# Altium integrated library Silicon Labs Isolation and Power.IntLib: 421 symbols (part 18 of 19)
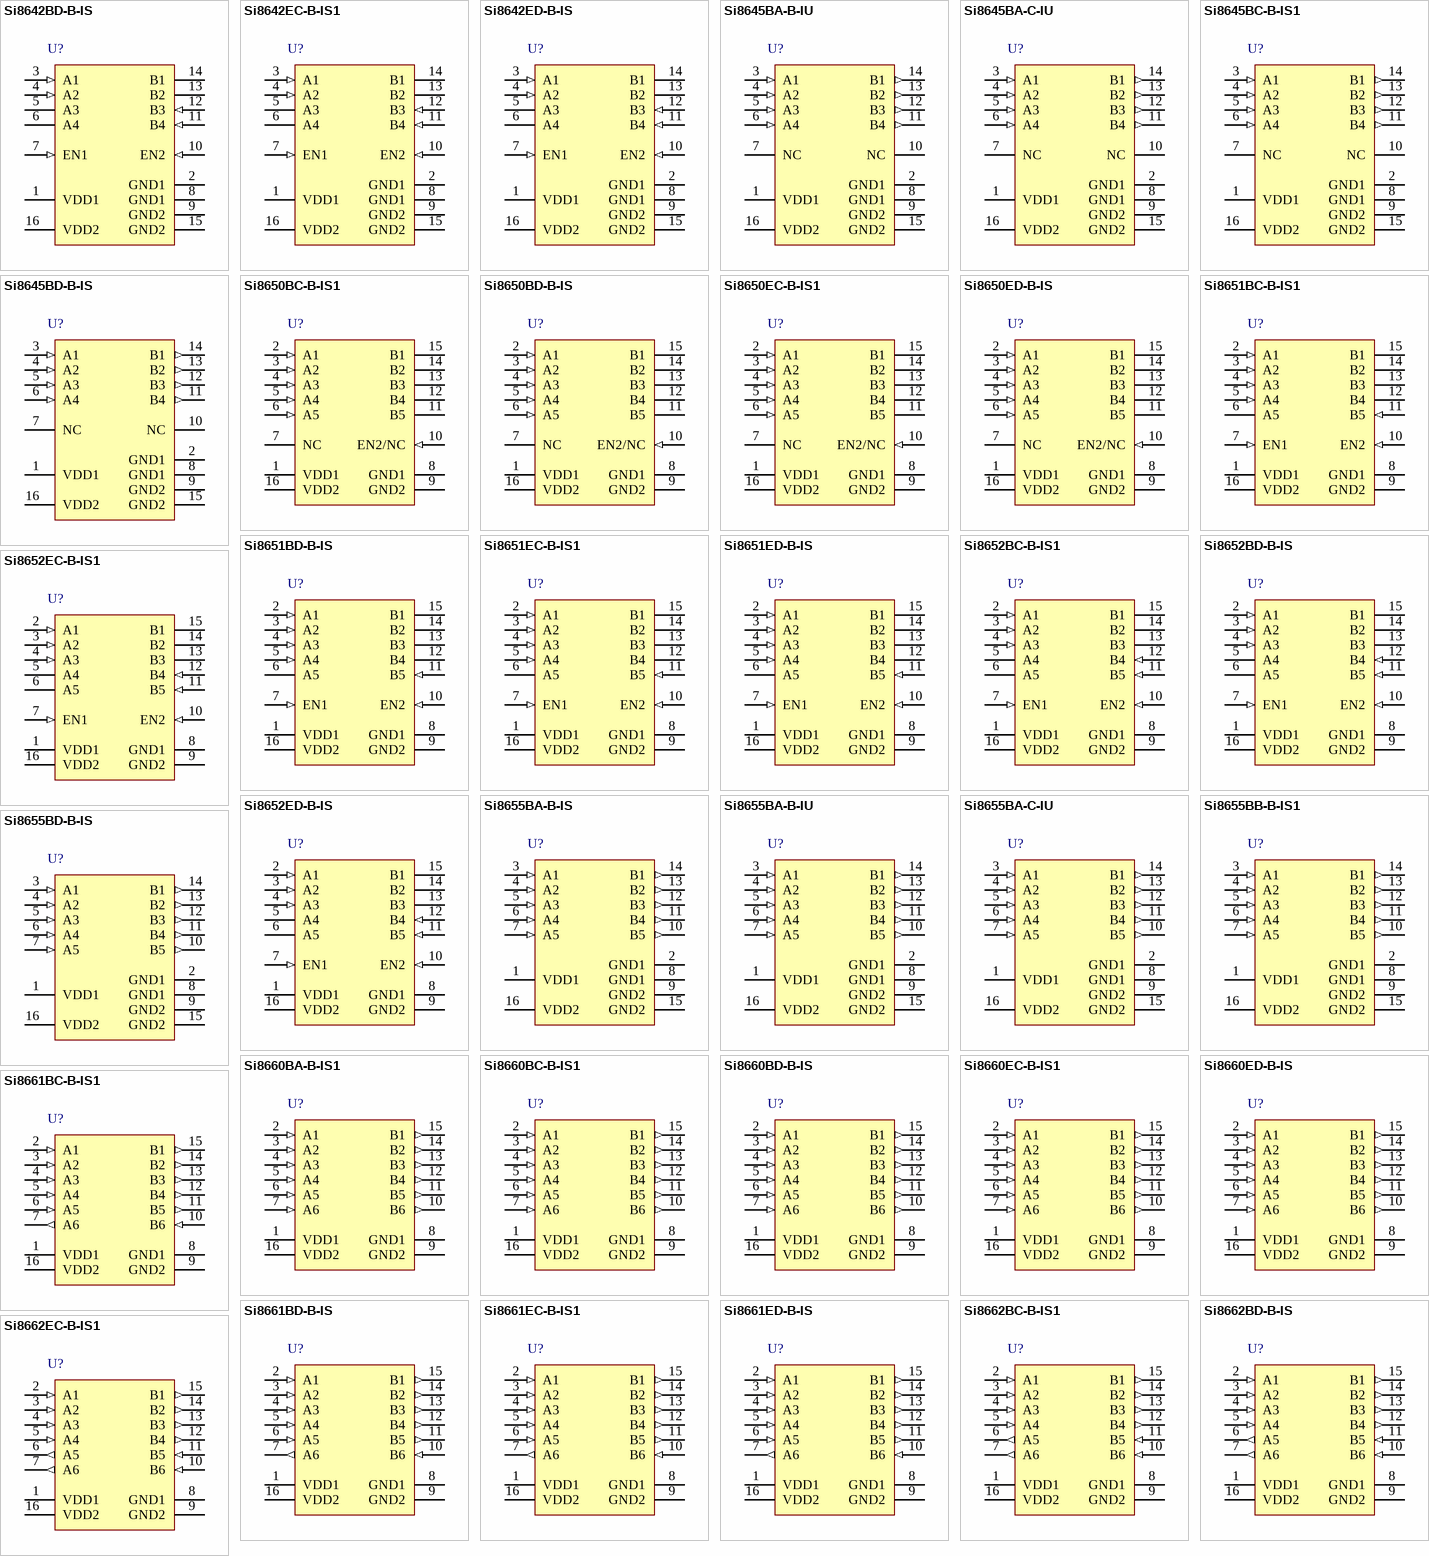
[diagram p31: symbols Si8642BD-B-IS to Si8662EC-B-IS1]

## Si8662BC-B-IS1
designator U?
Low Power Six-Channel Digital Isolator, 150 Mbps, 3.75 kVRMS Isolation Rating, -40 to 125 degC, 16-pin SOIC; Manufacturer: Silicon Labs; PartNumber: Si8662BC-B-IS1; 10kV surge: FALSE; Channel Type: Unidirectional; Isolation Rating (kV): 3.75; Maximum Data Rate (Mbps): 150; Maximum Propagation Delay (ns): 13; Sub-Family: Isolators; DatasheetVersion: Rev. 1.4; PackageReference: SOIC-16-NB; PackageDescription: 16-Pin Small-Outline Integrated Circuit, Body 9.9 x 3.9 mm, Pitch 1.27 mm; Supplier 1: Digi-Key; Supplier Part Number 1: 336-2124-5-ND; Supplier 2: Mouser; Supplier Part Number 2: 634-SI8662BC-B-IS1; AEC-Q100: FALSE; Enable Control: FALSE; Mounting Technology: Surface Mount; Code_JEDEC: MS-012; Code_IPC: J-STD-020; ComponentLink1Description: Manufacturer URL; ComponentLink1URL: http://www.silabs.com/; ComponentLink2Description: Datasheet; ComponentLink2URL: http://www.silabs.com/Support%20Documents/TechnicalDocs/Si866x.pdf; ComponentLink3Description: Package Specification; ComponentLink3URL: http://www.silabs.com/Support%20Documents/TechnicalDocs/si2401.pdf
footprint SLAB-SOIC-16-NB_N (SOIC, 16-Leads, Body 9.9x3.9mm, Pitch 1.27mm, IPC Medium Density)
footprint SLAB-SOIC-16-NB_L (SOIC, 16-Leads, Body 9.9x3.9mm, Pitch 1.27mm, IPC High Density)
footprint SLAB-SOIC-16-NB_M (SOIC, 16-Leads, Body 9.9x3.9mm, Pitch 1.27mm, IPC Low Density)
pins: 1 VDD1 (power) "Side 1 power supply.", 2 A1 (in) "Side 1 digital input.", 3 A2 (in) "Side 1 digital input.", 4 A3 (in) "Side 1 digital input.", 5 A4 (in) "Side 1 digital input.", 6 A5 (out) "Side 1 digital output.", 7 A6 (out) "Side 1 digital output.", 8 GND1 (power) "Side 1 ground.", 9 GND2 (power) "Side 2 ground.", 10 B6 (in) "Side 2 digital input.", 11 B5 (in) "Side 2 digital input.", 12 B4 (out) "Side 2 digital output.", 13 B3 (out) "Side 2 digital output.", 14 B2 (out) "Side 2 digital output.", 15 B1 (out) "Side 2 digital output.", 16 VDD2 (power) "Side 2 power supply."

## Si8662BD-B-IS
designator U?
Low Power Six-Channel Digital Isolator, 150 Mbps, 5 kVRMS Isolation Rating, -40 to 125 degC, 16-pin SOIC; Manufacturer: Silicon Labs; PartNumber: Si8662BD-B-IS; 10kV surge: FALSE; Channel Type: Unidirectional; Isolation Rating (kV): 5; Maximum Data Rate (Mbps): 150; Maximum Propagation Delay (ns): 13; Sub-Family: Isolators; DatasheetVersion: Rev. 1.4; PackageReference: SOIC-16-WB; PackageDescription: 16-Pin Wide Body Plastic Small Outline, Body 10.3 x 7.5 mm, Pitch 1.27 mm; Supplier 1: Digi-Key; Supplier Part Number 1: 336-2125-5-ND; Supplier 2: Mouser; Supplier Part Number 2: 634-SI8662BD-B-IS; AEC-Q100: FALSE; Enable Control: FALSE; Mounting Technology: Surface Mount; Code_JEDEC: MS-013; ComponentLink1Description: Manufacturer URL; ComponentLink1URL: http://www.silabs.com/; ComponentLink2Description: Datasheet; ComponentLink2URL: http://www.silabs.com/Support%20Documents/TechnicalDocs/Si866x.pdf; ComponentLink3Description: Package Specification; ComponentLink3URL: https://www.silabs.com/Support%20Documents/TechnicalDocs/Si823x.pdf
footprint SLAB-SOIC-16-WB_N (SOIC, 16-Leads, Body 10.3x7.5mm, Pitch 1.27mm, IPC Medium Density)
footprint SLAB-SOIC-16-WB_L (SOIC, 16-Leads, Body 10.3x7.5mm, Pitch 1.27mm, IPC High Density)
footprint SLAB-SOIC-16-WB_M (SOIC, 16-Leads, Body 10.3x7.5mm, Pitch 1.27mm, IPC Low Density)
pins: 1 VDD1 (power) "Side 1 power supply.", 2 A1 (in) "Side 1 digital input.", 3 A2 (in) "Side 1 digital input.", 4 A3 (in) "Side 1 digital input.", 5 A4 (in) "Side 1 digital input.", 6 A5 (out) "Side 1 digital output.", 7 A6 (out) "Side 1 digital output.", 8 GND1 (power) "Side 1 ground.", 9 GND2 (power) "Side 2 ground.", 10 B6 (in) "Side 2 digital input.", 11 B5 (in) "Side 2 digital input.", 12 B4 (out) "Side 2 digital output.", 13 B3 (out) "Side 2 digital output.", 14 B2 (out) "Side 2 digital output.", 15 B1 (out) "Side 2 digital output.", 16 VDD2 (power) "Side 2 power supply."

## Si8662EC-B-IS1
designator U?
Low Power Six-Channel Digital Isolator, 150 Mbps, 3.75 kVRMS Isolation Rating, -40 to 125 degC, 16-pin SOIC; Manufacturer: Silicon Labs; PartNumber: Si8662EC-B-IS1; 10kV surge: FALSE; Channel Type: Unidirectional; Isolation Rating (kV): 3.75; Maximum Data Rate (Mbps): 150; Maximum Propagation Delay (ns): 13; Sub-Family: Isolators; DatasheetVersion: Rev. 1.4; PackageReference: SOIC-16-NB; PackageDescription: 16-Pin Small-Outline Integrated Circuit, Body 9.9 x 3.9 mm, Pitch 1.27 mm; Supplier 1: Digi-Key; Supplier Part Number 1: 336-2126-5-ND; Supplier 2: Mouser; Supplier Part Number 2: 634-SI8662EC-B-IS1; AEC-Q100: FALSE; Enable Control: FALSE; Mounting Technology: Surface Mount; Code_JEDEC: MS-012; Code_IPC: J-STD-020; ComponentLink1Description: Manufacturer URL; ComponentLink1URL: http://www.silabs.com/; ComponentLink2Description: Datasheet; ComponentLink2URL: http://www.silabs.com/Support%20Documents/TechnicalDocs/Si866x.pdf; ComponentLink3Description: Package Specification; ComponentLink3URL: http://www.silabs.com/Support%20Documents/TechnicalDocs/si2401.pdf
footprint SLAB-SOIC-16-NB_N (SOIC, 16-Leads, Body 9.9x3.9mm, Pitch 1.27mm, IPC Medium Density)
footprint SLAB-SOIC-16-NB_L (SOIC, 16-Leads, Body 9.9x3.9mm, Pitch 1.27mm, IPC High Density)
footprint SLAB-SOIC-16-NB_M (SOIC, 16-Leads, Body 9.9x3.9mm, Pitch 1.27mm, IPC Low Density)
pins: 1 VDD1 (power) "Side 1 power supply.", 2 A1 (in) "Side 1 digital input.", 3 A2 (in) "Side 1 digital input.", 4 A3 (in) "Side 1 digital input.", 5 A4 (in) "Side 1 digital input.", 6 A5 (out) "Side 1 digital output.", 7 A6 (out) "Side 1 digital output.", 8 GND1 (power) "Side 1 ground.", 9 GND2 (power) "Side 2 ground.", 10 B6 (in) "Side 2 digital input.", 11 B5 (in) "Side 2 digital input.", 12 B4 (out) "Side 2 digital output.", 13 B3 (out) "Side 2 digital output.", 14 B2 (out) "Side 2 digital output.", 15 B1 (out) "Side 2 digital output.", 16 VDD2 (power) "Side 2 power supply."

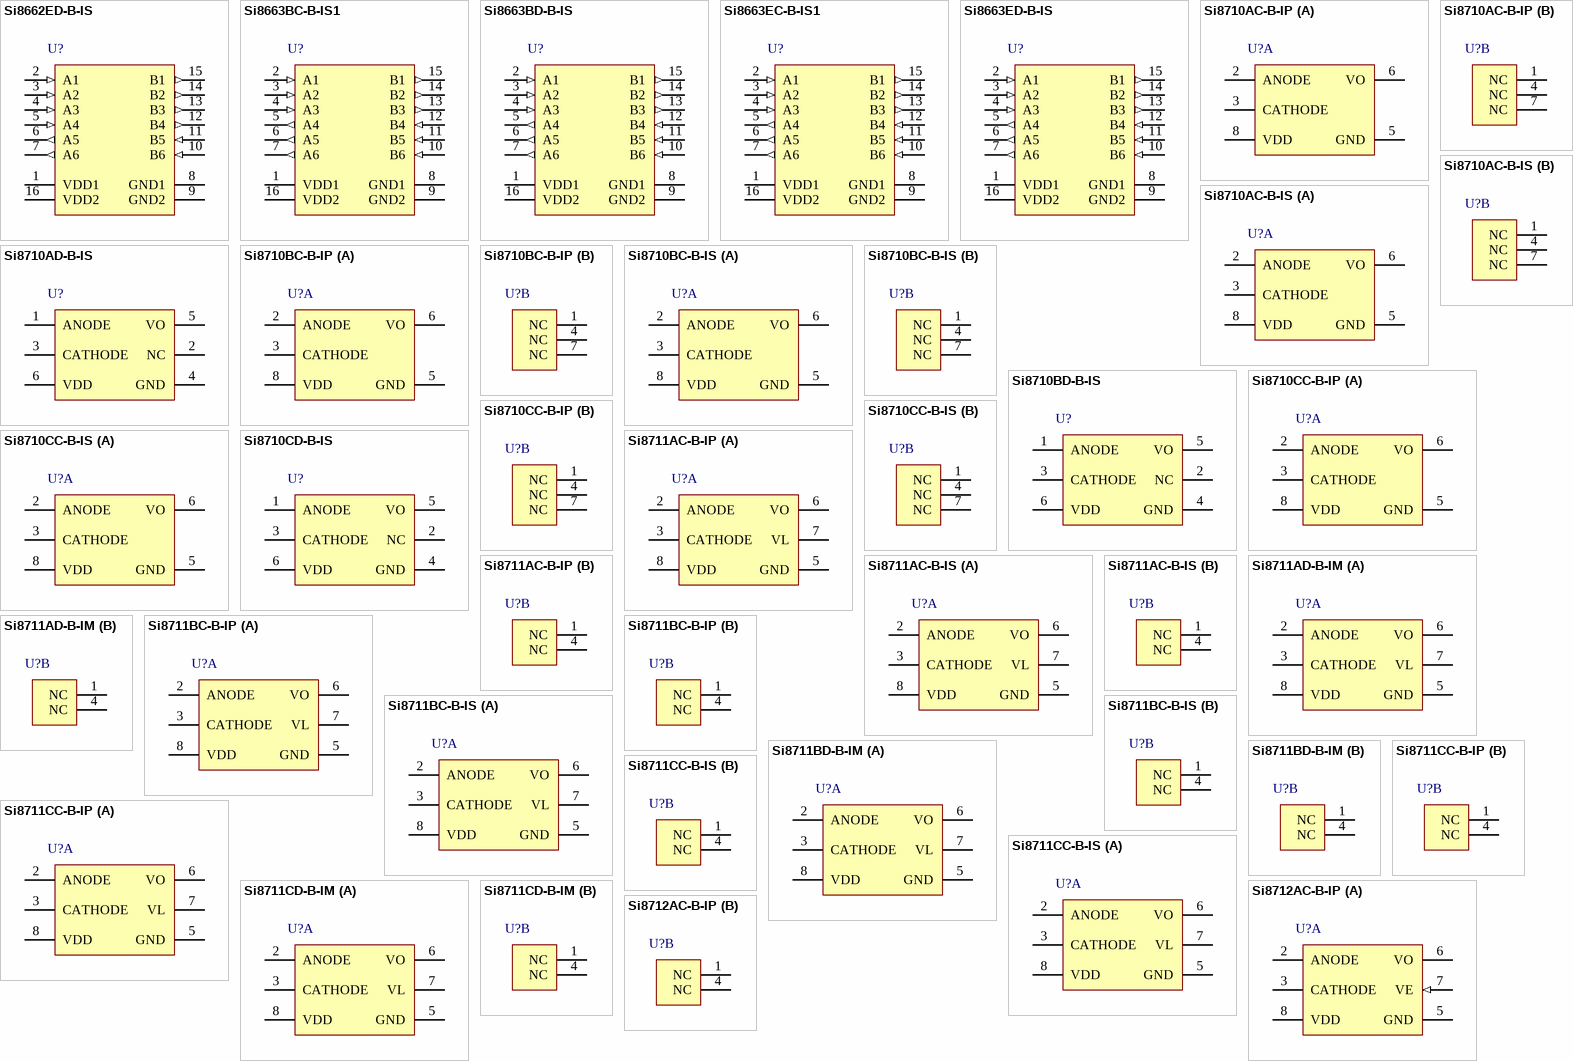
[diagram p13: symbols Si8662ED-B-IS to Si8712AC-B-IP]

## Si8662ED-B-IS
designator U?
Low Power Six-Channel Digital Isolator, 150 Mbps, 5 kVRMS Isolation Rating, -40 to 125 degC, 16-pin SOIC; Manufacturer: Silicon Labs; PartNumber: Si8662ED-B-IS; 10kV surge: FALSE; Channel Type: Unidirectional; Isolation Rating (kV): 5; Maximum Data Rate (Mbps): 150; Maximum Propagation Delay (ns): 13; Sub-Family: Isolators; DatasheetVersion: Rev. 1.4; PackageReference: SOIC-16-WB; PackageDescription: 16-Pin Wide Body Plastic Small Outline, Body 10.3 x 7.5 mm, Pitch 1.27 mm; Supplier 1: Digi-Key; Supplier Part Number 1: 336-2127-5-ND; Supplier 2: Mouser; Supplier Part Number 2: 634-SI8662ED-B-IS; AEC-Q100: FALSE; Enable Control: FALSE; Mounting Technology: Surface Mount; Code_JEDEC: MS-013; ComponentLink1Description: Manufacturer URL; ComponentLink1URL: http://www.silabs.com/; ComponentLink2Description: Datasheet; ComponentLink2URL: http://www.silabs.com/Support%20Documents/TechnicalDocs/Si866x.pdf; ComponentLink3Description: Package Specification; ComponentLink3URL: https://www.silabs.com/Support%20Documents/TechnicalDocs/Si823x.pdf
footprint SLAB-SOIC-16-WB_N (SOIC, 16-Leads, Body 10.3x7.5mm, Pitch 1.27mm, IPC Medium Density)
footprint SLAB-SOIC-16-WB_L (SOIC, 16-Leads, Body 10.3x7.5mm, Pitch 1.27mm, IPC High Density)
footprint SLAB-SOIC-16-WB_M (SOIC, 16-Leads, Body 10.3x7.5mm, Pitch 1.27mm, IPC Low Density)
pins: 1 VDD1 (power) "Side 1 power supply.", 2 A1 (in) "Side 1 digital input.", 3 A2 (in) "Side 1 digital input.", 4 A3 (in) "Side 1 digital input.", 5 A4 (in) "Side 1 digital input.", 6 A5 (out) "Side 1 digital output.", 7 A6 (out) "Side 1 digital output.", 8 GND1 (power) "Side 1 ground.", 9 GND2 (power) "Side 2 ground.", 10 B6 (in) "Side 2 digital input.", 11 B5 (in) "Side 2 digital input.", 12 B4 (out) "Side 2 digital output.", 13 B3 (out) "Side 2 digital output.", 14 B2 (out) "Side 2 digital output.", 15 B1 (out) "Side 2 digital output.", 16 VDD2 (power) "Side 2 power supply."

## Si8663BC-B-IS1
designator U?
Low Power Six-Channel Digital Isolator, 150 Mbps, 3.75 kVRMS Isolation Rating, -40 to 125 degC, 16-pin SOIC; Manufacturer: Silicon Labs; PartNumber: Si8663BC-B-IS1; 10kV surge: FALSE; Channel Type: Unidirectional; Isolation Rating (kV): 3.75; Maximum Data Rate (Mbps): 150; Maximum Propagation Delay (ns): 13; Sub-Family: Isolators; DatasheetVersion: Rev. 1.4; PackageReference: SOIC-16-NB; PackageDescription: 16-Pin Small-Outline Integrated Circuit, Body 9.9 x 3.9 mm, Pitch 1.27 mm; Supplier 1: Digi-Key; Supplier Part Number 1: 336-2128-5-ND; Supplier 2: Mouser; Supplier Part Number 2: 634-SI8663BC-B-IS1; AEC-Q100: FALSE; Enable Control: FALSE; Mounting Technology: Surface Mount; Code_JEDEC: MS-012; Code_IPC: J-STD-020; ComponentLink1Description: Manufacturer URL; ComponentLink1URL: http://www.silabs.com/; ComponentLink2Description: Datasheet; ComponentLink2URL: http://www.silabs.com/Support%20Documents/TechnicalDocs/Si866x.pdf; ComponentLink3Description: Package Specification; ComponentLink3URL: http://www.silabs.com/Support%20Documents/TechnicalDocs/si2401.pdf
footprint SLAB-SOIC-16-NB_N (SOIC, 16-Leads, Body 9.9x3.9mm, Pitch 1.27mm, IPC Medium Density)
footprint SLAB-SOIC-16-NB_L (SOIC, 16-Leads, Body 9.9x3.9mm, Pitch 1.27mm, IPC High Density)
footprint SLAB-SOIC-16-NB_M (SOIC, 16-Leads, Body 9.9x3.9mm, Pitch 1.27mm, IPC Low Density)
pins: 1 VDD1 (power) "Side 1 power supply.", 2 A1 (in) "Side 1 digital input.", 3 A2 (in) "Side 1 digital input.", 4 A3 (in) "Side 1 digital input.", 5 A4 (out) "Side 1 digital output.", 6 A5 (out) "Side 1 digital output.", 7 A6 (out) "Side 1 digital output.", 8 GND1 (power) "Side 1 ground.", 9 GND2 (power) "Side 2 ground.", 10 B6 (in), 11 B5 (in), 12 B4 (in), 13 B3 (out) "Side 2 digital output.", 14 B2 (out) "Side 2 digital output.", 15 B1 (out) "Side 2 digital output.", 16 VDD2 (power) "Side 2 power supply."

## Si8663BD-B-IS
designator U?
Low Power Six-Channel Digital Isolator, 150 Mbps, 5 kVRMS Isolation Rating, -40 to 125 degC, 16-pin SOIC; Manufacturer: Silicon Labs; PartNumber: Si8663BD-B-IS; 10kV surge: FALSE; Channel Type: Unidirectional; Isolation Rating (kV): 5; Maximum Data Rate (Mbps): 150; Maximum Propagation Delay (ns): 13; Sub-Family: Isolators; DatasheetVersion: Rev. 1.4; PackageReference: SOIC-16-WB; PackageDescription: 16-Pin Wide Body Plastic Small Outline, Body 10.3 x 7.5 mm, Pitch 1.27 mm; Supplier 1: Digi-Key; Supplier Part Number 1: 336-2129-5-ND; Supplier 2: Mouser; Supplier Part Number 2: 634-SI8663BD-B-IS; AEC-Q100: FALSE; Enable Control: FALSE; Mounting Technology: Surface Mount; Code_JEDEC: MS-013; ComponentLink1Description: Manufacturer URL; ComponentLink1URL: http://www.silabs.com/; ComponentLink2Description: Datasheet; ComponentLink2URL: http://www.silabs.com/Support%20Documents/TechnicalDocs/Si866x.pdf; ComponentLink3Description: Package Specification; ComponentLink3URL: https://www.silabs.com/Support%20Documents/TechnicalDocs/Si823x.pdf
footprint SLAB-SOIC-16-WB_N (SOIC, 16-Leads, Body 10.3x7.5mm, Pitch 1.27mm, IPC Medium Density)
footprint SLAB-SOIC-16-WB_L (SOIC, 16-Leads, Body 10.3x7.5mm, Pitch 1.27mm, IPC High Density)
footprint SLAB-SOIC-16-WB_M (SOIC, 16-Leads, Body 10.3x7.5mm, Pitch 1.27mm, IPC Low Density)
pins: 1 VDD1 (power) "Side 1 power supply.", 2 A1 (in) "Side 1 digital input.", 3 A2 (in) "Side 1 digital input.", 4 A3 (in) "Side 1 digital input.", 5 A4 (out) "Side 1 digital output.", 6 A5 (out) "Side 1 digital output.", 7 A6 (out) "Side 1 digital output.", 8 GND1 (power) "Side 1 ground.", 9 GND2 (power) "Side 2 ground.", 10 B6 (in), 11 B5 (in), 12 B4 (in), 13 B3 (out) "Side 2 digital output.", 14 B2 (out) "Side 2 digital output.", 15 B1 (out) "Side 2 digital output.", 16 VDD2 (power) "Side 2 power supply."

## Si8663EC-B-IS1
designator U?
Low Power Six-Channel Digital Isolator, 150 Mbps, 3.75 kVRMS Isolation Rating, -40 to 125 degC, 16-pin SOIC; Manufacturer: Silicon Labs; PartNumber: Si8663EC-B-IS1; 10kV surge: FALSE; Channel Type: Unidirectional; Isolation Rating (kV): 3.75; Maximum Data Rate (Mbps): 150; Maximum Propagation Delay (ns): 13; Sub-Family: Isolators; DatasheetVersion: Rev. 1.4; PackageReference: SOIC-16-NB; PackageDescription: 16-Pin Small-Outline Integrated Circuit, Body 9.9 x 3.9 mm, Pitch 1.27 mm; Supplier 1: Digi-Key; Supplier Part Number 1: 336-2130-5-ND; Supplier 2: Mouser; Supplier Part Number 2: 634-SI8663EC-B-IS1; AEC-Q100: FALSE; Enable Control: FALSE; Mounting Technology: Surface Mount; Code_JEDEC: MS-012; Code_IPC: J-STD-020; ComponentLink1Description: Manufacturer URL; ComponentLink1URL: http://www.silabs.com/; ComponentLink2Description: Datasheet; ComponentLink2URL: http://www.silabs.com/Support%20Documents/TechnicalDocs/Si866x.pdf; ComponentLink3Description: Package Specification; ComponentLink3URL: http://www.silabs.com/Support%20Documents/TechnicalDocs/si2401.pdf
footprint SLAB-SOIC-16-NB_N (SOIC, 16-Leads, Body 9.9x3.9mm, Pitch 1.27mm, IPC Medium Density)
footprint SLAB-SOIC-16-NB_L (SOIC, 16-Leads, Body 9.9x3.9mm, Pitch 1.27mm, IPC High Density)
footprint SLAB-SOIC-16-NB_M (SOIC, 16-Leads, Body 9.9x3.9mm, Pitch 1.27mm, IPC Low Density)
pins: 1 VDD1 (power) "Side 1 power supply.", 2 A1 (in) "Side 1 digital input.", 3 A2 (in) "Side 1 digital input.", 4 A3 (in) "Side 1 digital input.", 5 A4 (out) "Side 1 digital output.", 6 A5 (out) "Side 1 digital output.", 7 A6 (out) "Side 1 digital output.", 8 GND1 (power) "Side 1 ground.", 9 GND2 (power) "Side 2 ground.", 10 B6 (in), 11 B5 (in), 12 B4 (in), 13 B3 (out) "Side 2 digital output.", 14 B2 (out) "Side 2 digital output.", 15 B1 (out) "Side 2 digital output.", 16 VDD2 (power) "Side 2 power supply."

## Si8663ED-B-IS
designator U?
Low Power Six-Channel Digital Isolator, 150 Mbps, 5 kVRMS Isolation Rating, -40 to 125 degC, 16-pin SOIC; Manufacturer: Silicon Labs; PartNumber: Si8663ED-B-IS; 10kV surge: FALSE; Channel Type: Unidirectional; Isolation Rating (kV): 5; Maximum Data Rate (Mbps): 150; Maximum Propagation Delay (ns): 13; Sub-Family: Isolators; DatasheetVersion: Rev. 1.4; PackageReference: SOIC-16-WB; PackageDescription: 16-Pin Wide Body Plastic Small Outline, Body 10.3 x 7.5 mm, Pitch 1.27 mm; Supplier 1: Digi-Key; Supplier Part Number 1: 336-2131-5-ND; Supplier 2: Mouser; Supplier Part Number 2: 634-SI8663ED-B-IS; AEC-Q100: FALSE; Enable Control: FALSE; Mounting Technology: Surface Mount; Code_JEDEC: MS-013; ComponentLink1Description: Manufacturer URL; ComponentLink1URL: http://www.silabs.com/; ComponentLink2Description: Datasheet; ComponentLink2URL: http://www.silabs.com/Support%20Documents/TechnicalDocs/Si866x.pdf; ComponentLink3Description: Package Specification; ComponentLink3URL: https://www.silabs.com/Support%20Documents/TechnicalDocs/Si823x.pdf
footprint SLAB-SOIC-16-WB_N (SOIC, 16-Leads, Body 10.3x7.5mm, Pitch 1.27mm, IPC Medium Density)
footprint SLAB-SOIC-16-WB_L (SOIC, 16-Leads, Body 10.3x7.5mm, Pitch 1.27mm, IPC High Density)
footprint SLAB-SOIC-16-WB_M (SOIC, 16-Leads, Body 10.3x7.5mm, Pitch 1.27mm, IPC Low Density)
pins: 1 VDD1 (power) "Side 1 power supply.", 2 A1 (in) "Side 1 digital input.", 3 A2 (in) "Side 1 digital input.", 4 A3 (in) "Side 1 digital input.", 5 A4 (out) "Side 1 digital output.", 6 A5 (out) "Side 1 digital output.", 7 A6 (out) "Side 1 digital output.", 8 GND1 (power) "Side 1 ground.", 9 GND2 (power) "Side 2 ground.", 10 B6 (in), 11 B5 (in), 12 B4 (in), 13 B3 (out) "Side 2 digital output.", 14 B2 (out) "Side 2 digital output.", 15 B1 (out) "Side 2 digital output.", 16 VDD2 (power) "Side 2 power supply."

## Si8710AC-B-IP
designator U?
LED Emulator Input, Open Collector Output Isolator, 15 Mbps, 3.75 kVRMS Isolation Rating, -40 to 125 degC, 8-pin SOP; Manufacturer: Silicon Labs; PartNumber: Si8710AC-B-IP; 10kV surge: TRUE; AEC-Q100: FALSE; Channel Type: Unidirectional; Isolation Rating (kV): 3.75; Maximum Data Rate (Mbps): 15; Maximum Propagation Delay (ns): 60; Sub-Family: Isolators; DatasheetVersion: Rev. 0.5; PackageReference: DIP8; PackageDescription: 8-Pin Dual In-Line Package, Body 9.65 x 6.35 mm, Pitch 2.54 mm; Supplier 1: Digi-Key; Supplier Part Number 1: 336-2371-ND; Supplier 2: Mouser; Supplier Part Number 2: 634-SI8710AC-B-IP; Enable Control: FALSE; Mounting Technology: Surface Mount; ComponentLink1Description: Manufacturer URL; ComponentLink1URL: http://www.silabs.com/; ComponentLink2Description: Datasheet; ComponentLink2URL: http://www.silabs.com/Support%20Documents/TechnicalDocs/Si87xx.pdf; ComponentLink3Description: Package Specification; ComponentLink3URL: http://www.silabs.com/Support%20Documents/TechnicalDocs/Si826x.pdf
footprint SLAB-DIP8_N (SOP, 8-Leads, Body 9.9x6.6mm, Pitch 2.54mm, IPC Medium Density)
footprint SLAB-DIP8_L (SOP, 8-Leads, Body 9.9x6.6mm, Pitch 2.54mm, IPC High Density)
footprint SLAB-DIP8_M (SOP, 8-Leads, Body 9.9x6.6mm, Pitch 2.54mm, IPC Low Density)
part A pins: 2 ANODE "Anode of LED emulator. VO follows the signal applied to this input with respect to the CATHODE input.", 3 CATHODE "Cathode of LED emulator. VO follows the signal applied to ANODE with respect to this input.", 5 GND (power) "External MOSFET source connection and ground reference for VDD. This terminal is typically connected to ground but may be tied to a negative or positive voltage.", 6 VO (oc) "Output signal.", 8 VDD (power) "Output-side power supply input referenced to GND (30 V max)."
part B pins: 1 NC "No connect.", 4 NC "No connect.", 7 NC "No connect."

## Si8710AC-B-IS
designator U?
LED Emulator Input, Open Collector Output Isolator, 15 Mbps, 3.75 kVRMS Isolation Rating, -40 to 125 degC, 8-pin SOIC; Manufacturer: Silicon Labs; PartNumber: Si8710AC-B-IS; 10kV surge: TRUE; AEC-Q100: FALSE; Channel Type: Unidirectional; Isolation Rating (kV): 3.75; Maximum Data Rate (Mbps): 15; Maximum Propagation Delay (ns): 60; Sub-Family: Isolators; DatasheetVersion: Rev. 0.5; PackageReference: SOIC-8-NB; PackageDescription: 8-Pin Narrow Body Plastic Small Outline, Body 4.9 x 3.9 mm, Pitch 1.27 mm; Supplier 1: Digi-Key; Supplier Part Number 1: 336-2386-ND; Supplier 2: Mouser; Supplier Part Number 2: 634-SI8710AC-B-IS; Enable Control: FALSE; Mounting Technology: Surface Mount; ComponentLink1Description: Manufacturer URL; ComponentLink1URL: http://www.silabs.com/; ComponentLink2Description: Datasheet; ComponentLink2URL: http://www.silabs.com/Support%20Documents/TechnicalDocs/Si87xx.pdf; ComponentLink3Description: Package Specification; ComponentLink3URL: http://www.silabs.com/Support%20Documents/TechnicalDocs/Si8220-21.pdf
footprint SLAB-SOIC-8-NB_N (SOIC, 8-Leads, Body 5x4mm, Pitch 1.27mm, IPC Medium Density)
footprint SLAB-SOIC-8-NB_L (SOIC, 8-Leads, Body 5x4mm, Pitch 1.27mm, IPC High Density)
footprint SLAB-SOIC-8-NB_M (SOIC, 8-Leads, Body 5x4mm, Pitch 1.27mm, IPC Low Density)
part A pins: 2 ANODE "Anode of LED emulator. VO follows the signal applied to this input with respect to the CATHODE input.", 3 CATHODE "Cathode of LED emulator. VO follows the signal applied to ANODE with respect to this input.", 5 GND (power) "External MOSFET source connection and ground reference for VDD. This terminal is typically connected to ground but may be tied to a negative or positive voltage.", 6 VO (oc) "Output signal.", 8 VDD (power) "Output-side power supply input referenced to GND (30 V max)."
part B pins: 1 NC "No connect.", 4 NC "No connect.", 7 NC "No connect."

## Si8710AD-B-IS
designator U?
LED Emulator Input, Open Collector Output Isolator, 15 Mbps, 5 kVRMS Isolation Rating, -40 to 125 degC, 6-pin SOP; Manufacturer: Silicon Labs; PartNumber: Si8710AD-B-IS; 10kV surge: TRUE; AEC-Q100: FALSE; Channel Type: Unidirectional; Isolation Rating (kV): 5; Maximum Data Rate (Mbps): 15; Maximum Propagation Delay (ns): 60; Sub-Family: Isolators; DatasheetVersion: Rev. 0.5; PackageReference: SDIP6; PackageDescription: 6-Pin SDIP, Body 4.58 x 7.5 mm, Pitch 1.27 mm; Supplier 1: Digi-Key; Supplier Part Number 1: 336-2361-ND; Supplier 2: Mouser; Supplier Part Number 2: 634-SI8710AD-B-IS; Enable Control: FALSE; Mounting Technology: Surface Mount; ComponentLink1Description: Manufacturer URL; ComponentLink1URL: http://www.silabs.com/; ComponentLink2Description: Datasheet; ComponentLink2URL: http://www.silabs.com/Support%20Documents/TechnicalDocs/Si87xx.pdf; ComponentLink3Description: Package Specification; ComponentLink3URL: http://www.silabs.com/Support%20Documents/TechnicalDocs/Si826x.pdf
footprint SLAB-SDIP6_N (SOP, 6-Leads, Body 7.5x4.58mm, Pitch 1.27mm, IPC Medium Density)
footprint SLAB-SDIP6_L (SOP, 6-Leads, Body 7.5x4.58mm, Pitch 1.27mm, IPC High Density)
footprint SLAB-SDIP6_M (SOP, 6-Leads, Body 7.5x4.58mm, Pitch 1.27mm, IPC Low Density)
pins: 1 ANODE "Anode of LED emulator. VO follows the signal applied to this input with respect to the CATHODE input", 2 NC "No  connect.", 3 CATHODE "Cathode of LED emulator. VO follows the signal applied to ANODE with respect to this input.", 4 GND (power) "External MOSFET source connection and ground reference for VDD. This terminal is typically  connected to ground but may be tied to a negative or positive voltage", 5 VO (oc) "Output signal", 6 VDD (power) "Output-side power supply input referenced to GND (30 V max)."

## Si8710BC-B-IP
designator U?
LED Emulator Input, Open Collector Output Isolator, 15 Mbps, 3.75 kVRMS Isolation Rating, -40 to 125 degC, 8-pin SOP; Manufacturer: Silicon Labs; PartNumber: Si8710BC-B-IP; 10kV surge: TRUE; AEC-Q100: FALSE; Channel Type: Unidirectional; Isolation Rating (kV): 3.75; Maximum Data Rate (Mbps): 15; Maximum Propagation Delay (ns): 60; Sub-Family: Isolators; DatasheetVersion: Rev. 0.5; PackageReference: DIP8; PackageDescription: 8-Pin Dual In-Line Package, Body 9.65 x 6.35 mm, Pitch 2.54 mm; Supplier 1: Digi-Key; Supplier Part Number 1: 336-2373-ND; Supplier 2: Mouser; Supplier Part Number 2: 634-SI8710BC-B-IP; Enable Control: FALSE; Mounting Technology: Surface Mount; ComponentLink1Description: Manufacturer URL; ComponentLink1URL: http://www.silabs.com/; ComponentLink2Description: Datasheet; ComponentLink2URL: http://www.silabs.com/Support%20Documents/TechnicalDocs/Si87xx.pdf; ComponentLink3Description: Package Specification; ComponentLink3URL: http://www.silabs.com/Support%20Documents/TechnicalDocs/Si826x.pdf
footprint SLAB-DIP8_N (SOP, 8-Leads, Body 9.9x6.6mm, Pitch 2.54mm, IPC Medium Density)
footprint SLAB-DIP8_L (SOP, 8-Leads, Body 9.9x6.6mm, Pitch 2.54mm, IPC High Density)
footprint SLAB-DIP8_M (SOP, 8-Leads, Body 9.9x6.6mm, Pitch 2.54mm, IPC Low Density)
part A pins: 2 ANODE "Anode of LED emulator. VO follows the signal applied to this input with respect to the CATHODE input.", 3 CATHODE "Cathode of LED emulator. VO follows the signal applied to ANODE with respect to this input.", 5 GND (power) "External MOSFET source connection and ground reference for VDD. This terminal is typically connected to ground but may be tied to a negative or positive voltage.", 6 VO (oc) "Output signal.", 8 VDD (power) "Output-side power supply input referenced to GND (30 V max)."
part B pins: 1 NC "No connect.", 4 NC "No connect.", 7 NC "No connect."

## Si8710BC-B-IS
designator U?
LED Emulator Input, Open Collector Output Isolator, 15 Mbps, 3.75 kVRMS Isolation Rating, -40 to 125 degC, 8-pin SOIC; Manufacturer: Silicon Labs; PartNumber: Si8710BC-B-IS; 10kV surge: TRUE; AEC-Q100: FALSE; Channel Type: Unidirectional; Isolation Rating (kV): 3.75; Maximum Data Rate (Mbps): 15; Maximum Propagation Delay (ns): 60; Sub-Family: Isolators; DatasheetVersion: Rev. 0.5; PackageReference: SOIC-8-NB; PackageDescription: 8-Pin Narrow Body Plastic Small Outline, Body 4.9 x 3.9 mm, Pitch 1.27 mm; Supplier 1: Digi-Key; Supplier Part Number 1: 336-2374-ND; Supplier 2: Mouser; Supplier Part Number 2: 634-SI8710BC-B-IS; Enable Control: FALSE; Mounting Technology: Surface Mount; ComponentLink1Description: Manufacturer URL; ComponentLink1URL: http://www.silabs.com/; ComponentLink2Description: Datasheet; ComponentLink2URL: http://www.silabs.com/Support%20Documents/TechnicalDocs/Si87xx.pdf; ComponentLink3Description: Package Specification; ComponentLink3URL: http://www.silabs.com/Support%20Documents/TechnicalDocs/Si8220-21.pdf
footprint SLAB-SOIC-8-NB_N (SOIC, 8-Leads, Body 5x4mm, Pitch 1.27mm, IPC Medium Density)
footprint SLAB-SOIC-8-NB_L (SOIC, 8-Leads, Body 5x4mm, Pitch 1.27mm, IPC High Density)
footprint SLAB-SOIC-8-NB_M (SOIC, 8-Leads, Body 5x4mm, Pitch 1.27mm, IPC Low Density)
part A pins: 2 ANODE "Anode of LED emulator. VO follows the signal applied to this input with respect to the CATHODE input.", 3 CATHODE "Cathode of LED emulator. VO follows the signal applied to ANODE with respect to this input.", 5 GND (power) "External MOSFET source connection and ground reference for VDD. This terminal is typically connected to ground but may be tied to a negative or positive voltage.", 6 VO (oc) "Output signal.", 8 VDD (power) "Output-side power supply input referenced to GND (30 V max)."
part B pins: 1 NC "No connect.", 4 NC "No connect.", 7 NC "No connect."

## Si8710BD-B-IS
designator U?
LED Emulator Input, Open Collector Output Isolator, 15 Mbps, 5 kVRMS Isolation Rating, -40 to 125 degC, 6-pin SOP; Manufacturer: Silicon Labs; PartNumber: Si8710BD-B-IS; 10kV surge: TRUE; AEC-Q100: FALSE; Channel Type: Unidirectional; Isolation Rating (kV): 5; Maximum Data Rate (Mbps): 15; Maximum Propagation Delay (ns): 60; Sub-Family: Isolators; DatasheetVersion: Rev. 0.5; PackageReference: SDIP6; PackageDescription: 6-Pin SDIP, Body 4.58 x 7.5 mm, Pitch 1.27 mm; Supplier 1: Digi-Key; Supplier Part Number 1: 336-2377-ND; Supplier 2: Mouser; Supplier Part Number 2: 634-SI8710BD-B-IS; Enable Control: FALSE; Mounting Technology: Surface Mount; ComponentLink1Description: Manufacturer URL; ComponentLink1URL: http://www.silabs.com/; ComponentLink2Description: Datasheet; ComponentLink2URL: http://www.silabs.com/Support%20Documents/TechnicalDocs/Si87xx.pdf; ComponentLink3Description: Package Specification; ComponentLink3URL: http://www.silabs.com/Support%20Documents/TechnicalDocs/Si826x.pdf
footprint SLAB-SDIP6_N (SOP, 6-Leads, Body 7.5x4.58mm, Pitch 1.27mm, IPC Medium Density)
footprint SLAB-SDIP6_L (SOP, 6-Leads, Body 7.5x4.58mm, Pitch 1.27mm, IPC High Density)
footprint SLAB-SDIP6_M (SOP, 6-Leads, Body 7.5x4.58mm, Pitch 1.27mm, IPC Low Density)
pins: 1 ANODE "Anode of LED emulator. VO follows the signal applied to this input with respect to the CATHODE input", 2 NC "No  connect.", 3 CATHODE "Cathode of LED emulator. VO follows the signal applied to ANODE with respect to this input.", 4 GND (power) "External MOSFET source connection and ground reference for VDD. This terminal is typically  connected to ground but may be tied to a negative or positive voltage", 5 VO (oc) "Output signal", 6 VDD (power) "Output-side power supply input referenced to GND (30 V max)."

## Si8710CC-B-IP
designator U?
LED Emulator Input, Open Collector Output Isolator, 1 Mbps, 3.75 kVRMS Isolation Rating, -40 to 125 degC, 8-pin SOP; Manufacturer: Silicon Labs; PartNumber: Si8710CC-B-IP; 10kV surge: TRUE; AEC-Q100: FALSE; Channel Type: Unidirectional; Isolation Rating (kV): 3.75; Maximum Data Rate (Mbps): 1; Maximum Propagation Delay (ns): 60; Sub-Family: Isolators; DatasheetVersion: Rev. 0.5; PackageReference: DIP8; PackageDescription: 8-Pin Dual In-Line Package, Body 9.65 x 6.35 mm, Pitch 2.54 mm; Supplier 1: Digi-Key; Supplier Part Number 1: 336-2359-ND; Supplier 2: Mouser; Supplier Part Number 2: 634-SI8710CC-B-IP; Enable Control: FALSE; Mounting Technology: Surface Mount; ComponentLink1Description: Manufacturer URL; ComponentLink1URL: http://www.silabs.com/; ComponentLink2Description: Datasheet; ComponentLink2URL: http://www.silabs.com/Support%20Documents/TechnicalDocs/Si87xx.pdf; ComponentLink3Description: Package Specification; ComponentLink3URL: http://www.silabs.com/Support%20Documents/TechnicalDocs/Si826x.pdf
footprint SLAB-DIP8_N (SOP, 8-Leads, Body 9.9x6.6mm, Pitch 2.54mm, IPC Medium Density)
footprint SLAB-DIP8_L (SOP, 8-Leads, Body 9.9x6.6mm, Pitch 2.54mm, IPC High Density)
footprint SLAB-DIP8_M (SOP, 8-Leads, Body 9.9x6.6mm, Pitch 2.54mm, IPC Low Density)
part A pins: 2 ANODE "Anode of LED emulator. VO follows the signal applied to this input with respect to the CATHODE input.", 3 CATHODE "Cathode of LED emulator. VO follows the signal applied to ANODE with respect to this input.", 5 GND (power) "External MOSFET source connection and ground reference for VDD. This terminal is typically connected to ground but may be tied to a negative or positive voltage.", 6 VO (oc) "Output signal.", 8 VDD (power) "Output-side power supply input referenced to GND (30 V max)."
part B pins: 1 NC "No connect.", 4 NC "No connect.", 7 NC "No connect."

## Si8710CC-B-IS
designator U?
LED Emulator Input, Open Collector Output Isolator, 1 Mbps, 3.75 kVRMS Isolation Rating, -40 to 125 degC, 8-pin SOIC; Manufacturer: Silicon Labs; PartNumber: Si8710CC-B-IS; 10kV surge: TRUE; AEC-Q100: FALSE; Channel Type: Unidirectional; Isolation Rating (kV): 3.75; Maximum Data Rate (Mbps): 1; Maximum Propagation Delay (ns): 60; Sub-Family: Isolators; DatasheetVersion: Rev. 0.5; PackageReference: SOIC-8-NB; PackageDescription: 8-Pin Narrow Body Plastic Small Outline, Body 4.9 x 3.9 mm, Pitch 1.27 mm; Supplier 1: Digi-Key; Supplier Part Number 1: 336-2381-ND; Supplier 2: Mouser; Supplier Part Number 2: 634-SI8710CC-B-IS; Enable Control: FALSE; Mounting Technology: Surface Mount; ComponentLink1Description: Manufacturer URL; ComponentLink1URL: http://www.silabs.com/; ComponentLink2Description: Datasheet; ComponentLink2URL: http://www.silabs.com/Support%20Documents/TechnicalDocs/Si87xx.pdf; ComponentLink3Description: Package Specification; ComponentLink3URL: http://www.silabs.com/Support%20Documents/TechnicalDocs/Si8220-21.pdf
footprint SLAB-SOIC-8-NB_N (SOIC, 8-Leads, Body 5x4mm, Pitch 1.27mm, IPC Medium Density)
footprint SLAB-SOIC-8-NB_L (SOIC, 8-Leads, Body 5x4mm, Pitch 1.27mm, IPC High Density)
footprint SLAB-SOIC-8-NB_M (SOIC, 8-Leads, Body 5x4mm, Pitch 1.27mm, IPC Low Density)
part A pins: 2 ANODE "Anode of LED emulator. VO follows the signal applied to this input with respect to the CATHODE input.", 3 CATHODE "Cathode of LED emulator. VO follows the signal applied to ANODE with respect to this input.", 5 GND (power) "External MOSFET source connection and ground reference for VDD. This terminal is typically connected to ground but may be tied to a negative or positive voltage.", 6 VO (oc) "Output signal.", 8 VDD (power) "Output-side power supply input referenced to GND (30 V max)."
part B pins: 1 NC "No connect.", 4 NC "No connect.", 7 NC "No connect."

## Si8710CD-B-IS
designator U?
LED Emulator Input, Open Collector Output Isolator, 1 Mbps, 5 kVRMS Isolation Rating, -40 to 125 degC, 6-pin SOP; Manufacturer: Silicon Labs; PartNumber: Si8710CD-B-IS; 10kV surge: TRUE; AEC-Q100: FALSE; Channel Type: Unidirectional; Isolation Rating (kV): 5; Maximum Data Rate (Mbps): 1; Maximum Propagation Delay (ns): 60; Sub-Family: Isolators; DatasheetVersion: Rev. 0.5; PackageReference: SDIP6; PackageDescription: 6-Pin SDIP, Body 4.58 x 7.5 mm, Pitch 1.27 mm; Supplier 1: Digi-Key; Supplier Part Number 1: 336-2363-ND; Supplier 2: Mouser; Supplier Part Number 2: 634-SI8710CD-B-IS; Enable Control: FALSE; Mounting Technology: Surface Mount; ComponentLink1Description: Manufacturer URL; ComponentLink1URL: http://www.silabs.com/; ComponentLink2Description: Datasheet; ComponentLink2URL: http://www.silabs.com/Support%20Documents/TechnicalDocs/Si87xx.pdf; ComponentLink3Description: Package Specification; ComponentLink3URL: http://www.silabs.com/Support%20Documents/TechnicalDocs/Si826x.pdf
footprint SLAB-SDIP6_N (SOP, 6-Leads, Body 7.5x4.58mm, Pitch 1.27mm, IPC Medium Density)
footprint SLAB-SDIP6_L (SOP, 6-Leads, Body 7.5x4.58mm, Pitch 1.27mm, IPC High Density)
footprint SLAB-SDIP6_M (SOP, 6-Leads, Body 7.5x4.58mm, Pitch 1.27mm, IPC Low Density)
pins: 1 ANODE "Anode of LED emulator. VO follows the signal applied to this input with respect to the CATHODE input", 2 NC "No  connect.", 3 CATHODE "Cathode of LED emulator. VO follows the signal applied to ANODE with respect to this input.", 4 GND (power) "External MOSFET source connection and ground reference for VDD. This terminal is typically  connected to ground but may be tied to a negative or positive voltage", 5 VO (oc) "Output signal", 6 VDD (power) "Output-side power supply input referenced to GND (30 V max)."

## Si8711AC-B-IP
designator U?
LED Emulator Input, Open Collector Output Isolator, 15 Mbps, 3.75 kVRMS Isolation Rating, -40 to 125 degC, 8-pin SOP; Manufacturer: Silicon Labs; PartNumber: Si8711AC-B-IP; 10kV surge: TRUE; AEC-Q100: FALSE; Channel Type: Unidirectional; Isolation Rating (kV): 3.75; Maximum Data Rate (Mbps): 15; Maximum Propagation Delay (ns): 60; Sub-Family: Isolators; DatasheetVersion: Rev. 0.5; PackageReference: DIP8; PackageDescription: 8-Pin Dual In-Line Package, Body 9.65 x 6.35 mm, Pitch 2.54 mm; Supplier 1: Digi-Key; Supplier Part Number 1: 336-2360-ND; Supplier 2: Mouser; Supplier Part Number 2: 634-SI8711AC-B-IP; Enable Control: FALSE; Mounting Technology: Surface Mount; ComponentLink1Description: Manufacturer URL; ComponentLink1URL: http://www.silabs.com/; ComponentLink2Description: Datasheet; ComponentLink2URL: http://www.silabs.com/Support%20Documents/TechnicalDocs/Si87xx.pdf; ComponentLink3Description: Package Specification; ComponentLink3URL: http://www.silabs.com/Support%20Documents/TechnicalDocs/Si826x.pdf
footprint SLAB-DIP8_N (SOP, 8-Leads, Body 9.9x6.6mm, Pitch 2.54mm, IPC Medium Density)
footprint SLAB-DIP8_L (SOP, 8-Leads, Body 9.9x6.6mm, Pitch 2.54mm, IPC High Density)
footprint SLAB-DIP8_M (SOP, 8-Leads, Body 9.9x6.6mm, Pitch 2.54mm, IPC Low Density)
part A pins: 2 ANODE "Anode of LED emulator. VO follows the signal applied to this input with respect to the CATHODE input.", 3 CATHODE "Cathode of LED emulator. VO follows the signal applied to ANODE with respect to this input.", 5 GND (power) "External MOSFET source connection and ground reference for VDD. This terminal is typically connected to ground but may be tied to a negative or positive voltage.", 6 VO (oc) "Output signal.", 7 VL "Output Pull-Up Load", 8 VDD (power) "Output-side power supply input referenced to GND (30 V max)."
part B pins: 1 NC "No connect.", 4 NC "No connect."

## Si8711AC-B-IS
designator U?
LED Emulator Input, Open Collector Output Isolator, 15 Mbps, 3.75 kVRMS Isolation Rating, -40 to 125 degC, 8-pin SOIC; Manufacturer: Silicon Labs; PartNumber: Si8711AC-B-IS; 10kV surge: TRUE; AEC-Q100: FALSE; Channel Type: Unidirectional; Isolation Rating (kV): 3.75; Maximum Data Rate (Mbps): 15; Maximum Propagation Delay (ns): 60; Sub-Family: Isolators; DatasheetVersion: Rev. 0.5; PackageReference: SOIC-8-NB; PackageDescription: 8-Pin Narrow Body Plastic Small Outline, Body 4.9 x 3.9 mm, Pitch 1.27 mm; Supplier 1: Digi-Key; Supplier Part Number 1: 336-2357-ND; Supplier 2: Mouser; Supplier Part Number 2: 634-SI8711AC-B-IS; Enable Control: FALSE; Mounting Technology: Surface Mount; ComponentLink1Description: Manufacturer URL; ComponentLink1URL: http://www.silabs.com/; ComponentLink2Description: Datasheet; ComponentLink2URL: http://www.silabs.com/Support%20Documents/TechnicalDocs/Si87xx.pdf; ComponentLink3Description: Package Specification; ComponentLink3URL: http://www.silabs.com/Support%20Documents/TechnicalDocs/Si8220-21.pdf
footprint SLAB-SOIC-8-NB_N (SOIC, 8-Leads, Body 5x4mm, Pitch 1.27mm, IPC Medium Density)
footprint SLAB-SOIC-8-NB_L (SOIC, 8-Leads, Body 5x4mm, Pitch 1.27mm, IPC High Density)
footprint SLAB-SOIC-8-NB_M (SOIC, 8-Leads, Body 5x4mm, Pitch 1.27mm, IPC Low Density)
part A pins: 2 ANODE "Anode of LED emulator. VO follows the signal applied to this input with respect to the CATHODE input.", 3 CATHODE "Cathode of LED emulator. VO follows the signal applied to ANODE with respect to this input.", 5 GND (power) "External MOSFET source connection and ground reference for VDD. This terminal is typically connected to ground but may be tied to a negative or positive voltage.", 6 VO (oc) "Output signal.", 7 VL "Output Pull-Up Load", 8 VDD (power) "Output-side power supply input referenced to GND (30 V max)."
part B pins: 1 NC "No connect.", 4 NC "No connect."

## Si8711AD-B-IM
designator U?
LED Emulator Input, Open Collector Output Isolator, 15 Mbps, 5 kVRMS Isolation Rating, -40 to 125 degC, 8-pin LGA; Manufacturer: Silicon Labs; PartNumber: Si8711AD-B-IM; 10kV surge: TRUE; AEC-Q100: FALSE; Channel Type: Unidirectional; Isolation Rating (kV): 5; Maximum Data Rate (Mbps): 15; Maximum Propagation Delay (ns): 60; Sub-Family: Isolators; DatasheetVersion: Rev. 0.5; PackageReference: LGA8; PackageDescription: 8-Pin Land Grid Array, Body 10 x 12.5 mm, Pitch 2.54 mm; Supplier 1: Digi-Key; Supplier Part Number 1: 336-2365-ND; Supplier 2: Mouser; Supplier Part Number 2: 634-SI8711AD-B-IM; Enable Control: FALSE; Mounting Technology: Surface Mount; Code_IPC: J-STD-020; ComponentLink1Description: Manufacturer URL; ComponentLink1URL: http://www.silabs.com/; ComponentLink2Description: Datasheet; ComponentLink2URL: http://www.silabs.com/Support%20Documents/TechnicalDocs/Si87xx.pdf; ComponentLink3Description: Package Specification; ComponentLink3URL: http://www.silabs.com/Support%20Documents/TechnicalDocs/Si826x.pdf
footprint SLAB-LGA8_V (LGA, 8-Leads, Body 12.5x10mm, Pitch 2.54mm)
part A pins: 2 ANODE "Anode of LED emulator. VO follows the signal applied to this input with respect to the CATHODE input.", 3 CATHODE "Cathode of LED emulator. VO follows the signal applied to ANODE with respect to this input.", 5 GND (power) "External MOSFET source connection and ground reference for VDD. This terminal is typically connected to ground but may be tied to a negative or positive voltage.", 6 VO (oc) "Output signal.", 7 VL "Output Pull-Up Load", 8 VDD (power) "Output-side power supply input referenced to GND (30 V max)."
part B pins: 1 NC "No connect.", 4 NC "No connect."

## Si8711BC-B-IP
designator U?
LED Emulator Input, Open Collector Output Isolator, 15 Mbps, 3.75 kVRMS Isolation Rating, -40 to 125 degC, 8-pin SOP; Manufacturer: Silicon Labs; PartNumber: Si8711BC-B-IP; 10kV surge: TRUE; AEC-Q100: FALSE; Channel Type: Unidirectional; Isolation Rating (kV): 3.75; Maximum Data Rate (Mbps): 15; Maximum Propagation Delay (ns): 60; Sub-Family: Isolators; DatasheetVersion: Rev. 0.5; PackageReference: DIP8; PackageDescription: 8-Pin Dual In-Line Package, Body 9.65 x 6.35 mm, Pitch 2.54 mm; Supplier 1: Digi-Key; Supplier Part Number 1: 336-2364-ND; Supplier 2: Mouser; Supplier Part Number 2: 634-SI8711BC-B-IP; Enable Control: FALSE; Mounting Technology: Surface Mount; ComponentLink1Description: Manufacturer URL; ComponentLink1URL: http://www.silabs.com/; ComponentLink2Description: Datasheet; ComponentLink2URL: http://www.silabs.com/Support%20Documents/TechnicalDocs/Si87xx.pdf; ComponentLink3Description: Package Specification; ComponentLink3URL: http://www.silabs.com/Support%20Documents/TechnicalDocs/Si826x.pdf
footprint SLAB-DIP8_N (SOP, 8-Leads, Body 9.9x6.6mm, Pitch 2.54mm, IPC Medium Density)
footprint SLAB-DIP8_L (SOP, 8-Leads, Body 9.9x6.6mm, Pitch 2.54mm, IPC High Density)
footprint SLAB-DIP8_M (SOP, 8-Leads, Body 9.9x6.6mm, Pitch 2.54mm, IPC Low Density)
part A pins: 2 ANODE "Anode of LED emulator. VO follows the signal applied to this input with respect to the CATHODE input.", 3 CATHODE "Cathode of LED emulator. VO follows the signal applied to ANODE with respect to this input.", 5 GND (power) "External MOSFET source connection and ground reference for VDD. This terminal is typically connected to ground but may be tied to a negative or positive voltage.", 6 VO (oc) "Output signal.", 7 VL "Output Pull-Up Load", 8 VDD (power) "Output-side power supply input referenced to GND (30 V max)."
part B pins: 1 NC "No connect.", 4 NC "No connect."

## Si8711BC-B-IS
designator U?
LED Emulator Input, Open Collector Output Isolator, 15 Mbps, 3.75 kVRMS Isolation Rating, -40 to 125 degC, 8-pin SOIC; Manufacturer: Silicon Labs; PartNumber: Si8711BC-B-IS; 10kV surge: TRUE; AEC-Q100: FALSE; Channel Type: Unidirectional; Isolation Rating (kV): 3.75; Maximum Data Rate (Mbps): 15; Maximum Propagation Delay (ns): 60; Sub-Family: Isolators; DatasheetVersion: Rev. 0.5; PackageReference: SOIC-8-NB; PackageDescription: 8-Pin Narrow Body Plastic Small Outline, Body 4.9 x 3.9 mm, Pitch 1.27 mm; Supplier 1: Digi-Key; Supplier Part Number 1: 336-2382-ND; Supplier 2: Mouser; Supplier Part Number 2: 634-SI8711BC-B-IS; Enable Control: FALSE; Mounting Technology: Surface Mount; ComponentLink1Description: Manufacturer URL; ComponentLink1URL: http://www.silabs.com/; ComponentLink2Description: Datasheet; ComponentLink2URL: http://www.silabs.com/Support%20Documents/TechnicalDocs/Si87xx.pdf; ComponentLink3Description: Package Specification; ComponentLink3URL: http://www.silabs.com/Support%20Documents/TechnicalDocs/Si8220-21.pdf
footprint SLAB-SOIC-8-NB_N (SOIC, 8-Leads, Body 5x4mm, Pitch 1.27mm, IPC Medium Density)
footprint SLAB-SOIC-8-NB_L (SOIC, 8-Leads, Body 5x4mm, Pitch 1.27mm, IPC High Density)
footprint SLAB-SOIC-8-NB_M (SOIC, 8-Leads, Body 5x4mm, Pitch 1.27mm, IPC Low Density)
part A pins: 2 ANODE "Anode of LED emulator. VO follows the signal applied to this input with respect to the CATHODE input.", 3 CATHODE "Cathode of LED emulator. VO follows the signal applied to ANODE with respect to this input.", 5 GND (power) "External MOSFET source connection and ground reference for VDD. This terminal is typically connected to ground but may be tied to a negative or positive voltage.", 6 VO (oc) "Output signal.", 7 VL "Output Pull-Up Load", 8 VDD (power) "Output-side power supply input referenced to GND (30 V max)."
part B pins: 1 NC "No connect.", 4 NC "No connect."

## Si8711BD-B-IM
designator U?
LED Emulator Input, Open Collector Output Isolator, 15 Mbps, 5 kVRMS Isolation Rating, -40 to 125 degC, 8-pin LGA; Manufacturer: Silicon Labs; PartNumber: Si8711BD-B-IM; 10kV surge: TRUE; AEC-Q100: FALSE; Channel Type: Unidirectional; Isolation Rating (kV): 5; Maximum Data Rate (Mbps): 15; Maximum Propagation Delay (ns): 60; Sub-Family: Isolators; DatasheetVersion: Rev. 0.5; PackageReference: LGA8; PackageDescription: 8-Pin Land Grid Array, Body 10 x 12.5 mm, Pitch 2.54 mm; Supplier 1: Digi-Key; Supplier Part Number 1: 336-2369-ND; Supplier 2: Mouser; Supplier Part Number 2: 634-SI8711BD-B-IM; Enable Control: FALSE; Mounting Technology: Surface Mount; Code_IPC: J-STD-020; ComponentLink1Description: Manufacturer URL; ComponentLink1URL: http://www.silabs.com/; ComponentLink2Description: Datasheet; ComponentLink2URL: http://www.silabs.com/Support%20Documents/TechnicalDocs/Si87xx.pdf; ComponentLink3Description: Package Specification; ComponentLink3URL: http://www.silabs.com/Support%20Documents/TechnicalDocs/Si826x.pdf
footprint SLAB-LGA8_V (LGA, 8-Leads, Body 12.5x10mm, Pitch 2.54mm)
part A pins: 2 ANODE "Anode of LED emulator. VO follows the signal applied to this input with respect to the CATHODE input.", 3 CATHODE "Cathode of LED emulator. VO follows the signal applied to ANODE with respect to this input.", 5 GND (power) "External MOSFET source connection and ground reference for VDD. This terminal is typically connected to ground but may be tied to a negative or positive voltage.", 6 VO (oc) "Output signal.", 7 VL "Output Pull-Up Load", 8 VDD (power) "Output-side power supply input referenced to GND (30 V max)."
part B pins: 1 NC "No connect.", 4 NC "No connect."

## Si8711CC-B-IP
designator U?
LED Emulator Input, Open Collector Output Isolator, 1 Mbps, 3.75 kVRMS Isolation Rating, -40 to 125 degC, 8-pin SOP; Manufacturer: Silicon Labs; PartNumber: Si8711CC-B-IP; 10kV surge: TRUE; AEC-Q100: FALSE; Channel Type: Unidirectional; Isolation Rating (kV): 3.75; Maximum Data Rate (Mbps): 1; Maximum Propagation Delay (ns): 60; Sub-Family: Isolators; DatasheetVersion: Rev. 0.5; PackageReference: DIP8; PackageDescription: 8-Pin Dual In-Line Package, Body 9.65 x 6.35 mm, Pitch 2.54 mm; Supplier 1: Digi-Key; Supplier Part Number 1: 336-2388-ND; Supplier 2: Mouser; Supplier Part Number 2: 634-SI8711CC-B-IP; Enable Control: FALSE; Mounting Technology: Surface Mount; ComponentLink1Description: Manufacturer URL; ComponentLink1URL: http://www.silabs.com/; ComponentLink2Description: Datasheet; ComponentLink2URL: http://www.silabs.com/Support%20Documents/TechnicalDocs/Si87xx.pdf; ComponentLink3Description: Package Specification; ComponentLink3URL: http://www.silabs.com/Support%20Documents/TechnicalDocs/Si826x.pdf
footprint SLAB-DIP8_N (SOP, 8-Leads, Body 9.9x6.6mm, Pitch 2.54mm, IPC Medium Density)
footprint SLAB-DIP8_L (SOP, 8-Leads, Body 9.9x6.6mm, Pitch 2.54mm, IPC High Density)
footprint SLAB-DIP8_M (SOP, 8-Leads, Body 9.9x6.6mm, Pitch 2.54mm, IPC Low Density)
part A pins: 2 ANODE "Anode of LED emulator. VO follows the signal applied to this input with respect to the CATHODE input.", 3 CATHODE "Cathode of LED emulator. VO follows the signal applied to ANODE with respect to this input.", 5 GND (power) "External MOSFET source connection and ground reference for VDD. This terminal is typically connected to ground but may be tied to a negative or positive voltage.", 6 VO (oc) "Output signal.", 7 VL "Output Pull-Up Load", 8 VDD (power) "Output-side power supply input referenced to GND (30 V max)."
part B pins: 1 NC "No connect.", 4 NC "No connect."

## Si8711CC-B-IS
designator U?
LED Emulator Input, Open Collector Output Isolator, 1 Mbps, 3.75 kVRMS Isolation Rating, -40 to 125 degC, 8-pin SOIC; Manufacturer: Silicon Labs; PartNumber: Si8711CC-B-IS; 10kV surge: TRUE; AEC-Q100: FALSE; Channel Type: Unidirectional; Isolation Rating (kV): 3.75; Maximum Data Rate (Mbps): 1; Maximum Propagation Delay (ns): 60; Sub-Family: Isolators; DatasheetVersion: Rev. 0.5; PackageReference: SOIC-8-NB; PackageDescription: 8-Pin Narrow Body Plastic Small Outline, Body 4.9 x 3.9 mm, Pitch 1.27 mm; Supplier 1: Digi-Key; Supplier Part Number 1: 336-2385-ND; Supplier 2: Mouser; Supplier Part Number 2: 634-SI8711CC-B-IS; Enable Control: FALSE; Mounting Technology: Surface Mount; ComponentLink1Description: Manufacturer URL; ComponentLink1URL: http://www.silabs.com/; ComponentLink2Description: Datasheet; ComponentLink2URL: http://www.silabs.com/Support%20Documents/TechnicalDocs/Si87xx.pdf; ComponentLink3Description: Package Specification; ComponentLink3URL: http://www.silabs.com/Support%20Documents/TechnicalDocs/Si8220-21.pdf
footprint SLAB-SOIC-8-NB_N (SOIC, 8-Leads, Body 5x4mm, Pitch 1.27mm, IPC Medium Density)
footprint SLAB-SOIC-8-NB_L (SOIC, 8-Leads, Body 5x4mm, Pitch 1.27mm, IPC High Density)
footprint SLAB-SOIC-8-NB_M (SOIC, 8-Leads, Body 5x4mm, Pitch 1.27mm, IPC Low Density)
part A pins: 2 ANODE "Anode of LED emulator. VO follows the signal applied to this input with respect to the CATHODE input.", 3 CATHODE "Cathode of LED emulator. VO follows the signal applied to ANODE with respect to this input.", 5 GND (power) "External MOSFET source connection and ground reference for VDD. This terminal is typically connected to ground but may be tied to a negative or positive voltage.", 6 VO (oc) "Output signal.", 7 VL "Output Pull-Up Load", 8 VDD (power) "Output-side power supply input referenced to GND (30 V max)."
part B pins: 1 NC "No connect.", 4 NC "No connect."

## Si8711CD-B-IM
designator U?
LED Emulator Input, Open Collector Output Isolator, 1 Mbps, 5 kVRMS Isolation Rating, -40 to 125 degC, 8-pin LGA; Manufacturer: Silicon Labs; PartNumber: Si8711CD-B-IM; 10kV surge: TRUE; AEC-Q100: FALSE; Channel Type: Unidirectional; Isolation Rating (kV): 5; Maximum Data Rate (Mbps): 1; Maximum Propagation Delay (ns): 60; Sub-Family: Isolators; DatasheetVersion: Rev. 0.5; PackageReference: LGA8; PackageDescription: 8-Pin Land Grid Array, Body 10 x 12.5 mm, Pitch 2.54 mm; Supplier 1: Digi-Key; Supplier Part Number 1: 336-2366-ND; Supplier 2: Mouser; Supplier Part Number 2: 634-SI8711CD-B-IM; Enable Control: FALSE; Mounting Technology: Surface Mount; Code_IPC: J-STD-020; ComponentLink1Description: Manufacturer URL; ComponentLink1URL: http://www.silabs.com/; ComponentLink2Description: Datasheet; ComponentLink2URL: http://www.silabs.com/Support%20Documents/TechnicalDocs/Si87xx.pdf; ComponentLink3Description: Package Specification; ComponentLink3URL: http://www.silabs.com/Support%20Documents/TechnicalDocs/Si826x.pdf
footprint SLAB-LGA8_V (LGA, 8-Leads, Body 12.5x10mm, Pitch 2.54mm)
part A pins: 2 ANODE "Anode of LED emulator. VO follows the signal applied to this input with respect to the CATHODE input.", 3 CATHODE "Cathode of LED emulator. VO follows the signal applied to ANODE with respect to this input.", 5 GND (power) "External MOSFET source connection and ground reference for VDD. This terminal is typically connected to ground but may be tied to a negative or positive voltage.", 6 VO (oc) "Output signal.", 7 VL "Output Pull-Up Load", 8 VDD (power) "Output-side power supply input referenced to GND (30 V max)."
part B pins: 1 NC "No connect.", 4 NC "No connect."